# Altium footprint library MLACHC_C.PCBLIB: 52 footprints (part 1 of 4)
Each footprint in its own frame and in the unit in brackets; x right, y up, seen from the top. Pads: shape width x height; smd on the part's side, far side on the other; paste and mask are expansions set on the pad; w line width, h text height; cw(c..) or ccw(c..) is an arc to the next point about the centre after c.
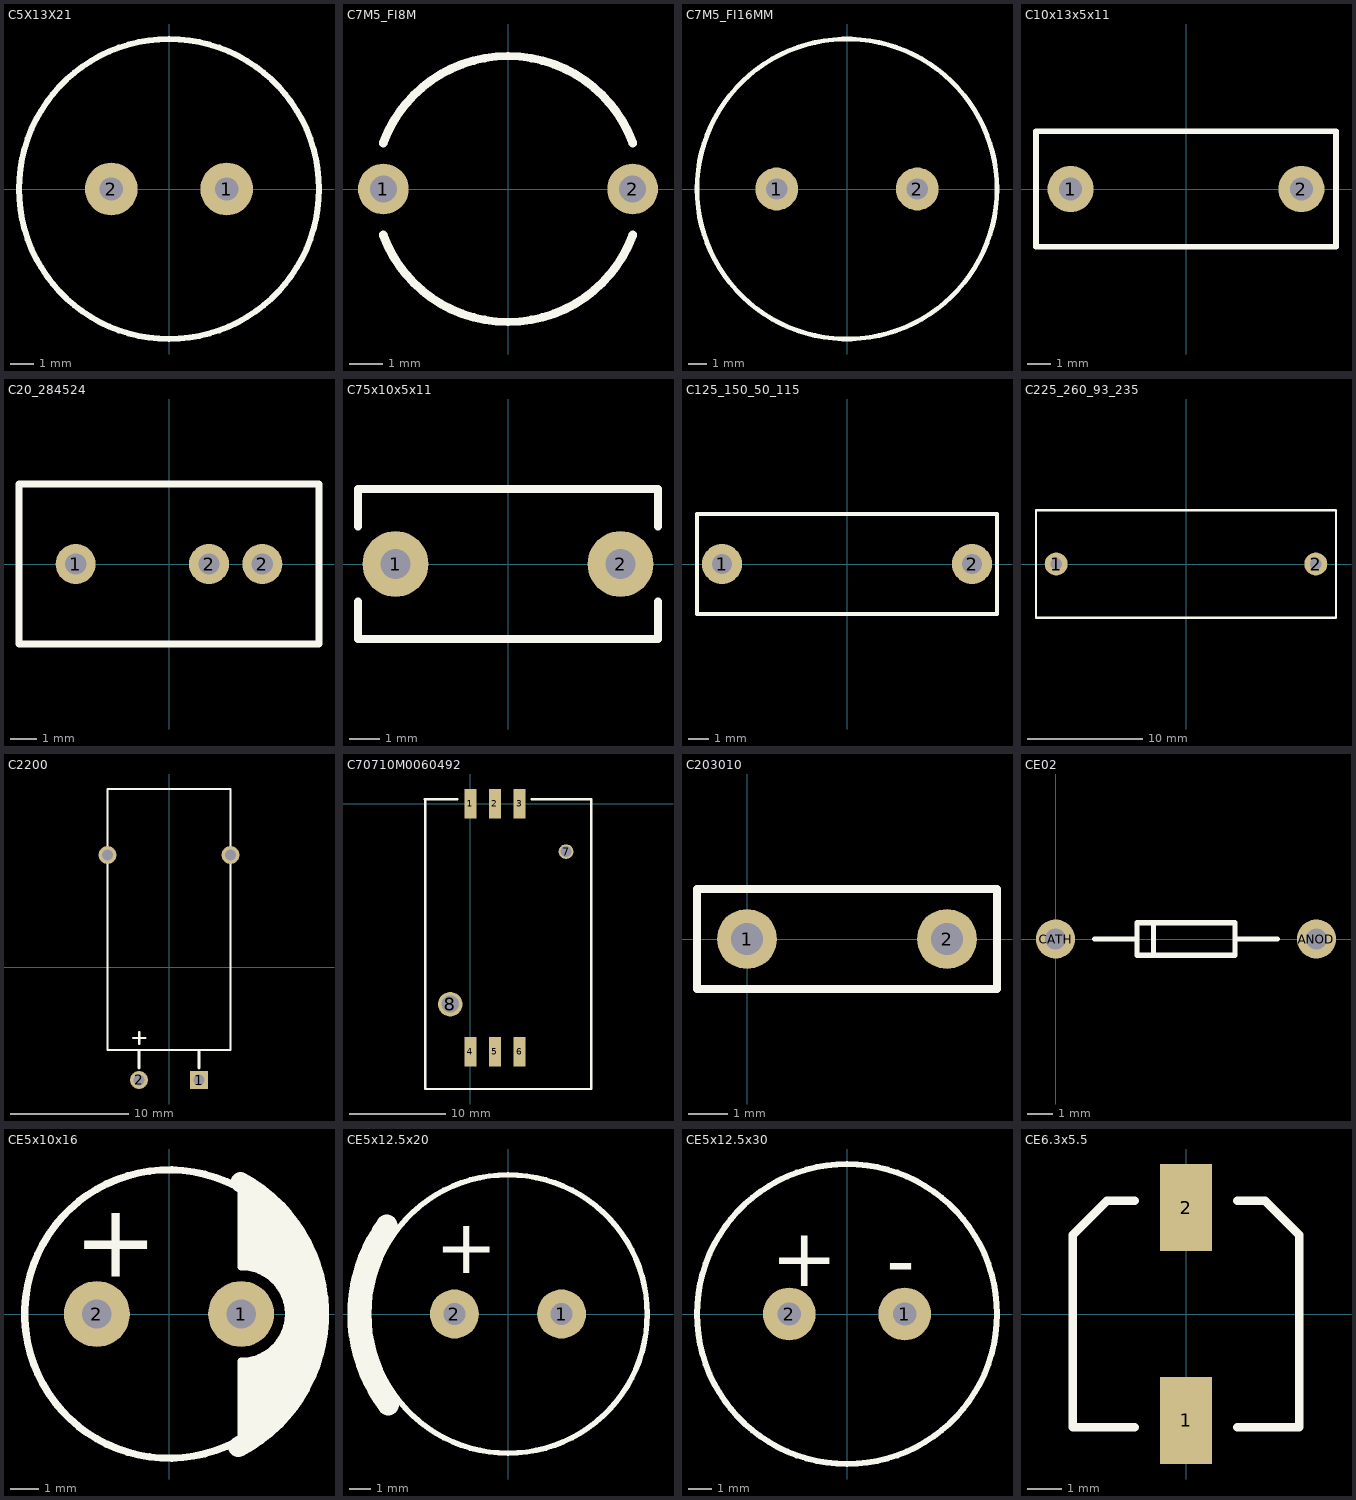
[diagram p0: the footprints below, top view; thin cyan lines are the x and y axes]

## C5X13X21 [mil]
pads (2):
  round 90 hole 40: 1(98.43,0) 2(-98.43,0)
TopOverlay:
  circle w10: c0,0 r255.91
3D body: height 826.77, standoff 0, extent -254.89,-255.9 254.9,254.9

## C7M5_FI8M [mil]
height 590.55
pads (2):
  round 60 hole 32: 1(-147.64,0) 2(147.64,0)
TopOverlay:
  lines w10: -147.98,-53.86 ccw(c0,0) 147.98,-53.86 ; -147.98,53.86 cw(c0,0) 147.98,53.86

## C7M5_FI16MM [mil]
height 984.25
pads (2):
  round 90 hole 45: 1(-147.64,0) 2(147.64,0)
TopOverlay:
  circle w10: c0,0 r314.96

## C10x13x5x11 [mm]
height 11
pads (2):
  round 2 hole 1: 1(-5,0) 2(5,0)
TopOverlay:
  lines w0.254: -6.5,-2.5 -6.5,2.5 6.5,2.5 6.5,-2.5 -6.5,-2.5
3D body: height 11, standoff 0, extent -6.5,-2.5 6.5,2.5

## C20_284524 [mil]
pads (3):
  round 60 hole 32: 1(-140,0) 2(60,0) 2(140,0)
TopOverlay:
  lines w10: -225,-120 -225,120 225,120 225,-120 -225,-120

## C75x10x5x11 [mm]
height 11
pads (2):
  round 2.2 hole 1: 1(-3.75,0) 2(3.75,0)
TopOverlay:
  lines w0.254: -5,-1.25 -5,-2.5 5,-2.5 5,-1.25 ; -5,1.25 -5,2.5 5,2.5 5,1.25
3D body: height 11, standoff 0, extent -5,-2.5 5,2.5

## C125_150_50_115 [mm]
pads (2):
  round 2 hole 1: 1(-6.25,0) 2(6.25,0)
TopOverlay:
  lines w0.203: -7.5,-2.5 -7.5,2.5 7.5,2.5 7.5,-2.5 -7.5,-2.5
3D body: height 11.5, standoff 0, extent -7.5,-2.5 7.5,2.5
3D body: height 1, standoff -3, extent -6.7,-0.45 -5.8,0.475
3D body: height 1, standoff -3, extent 5.8,-0.45 6.7,0.45

## C225_260_93_235 [mm]
pads (2):
  round 2 hole 1: 1(-11.25,0) 2(11.25,0)
TopOverlay:
  lines w0.203: -13,-4.65 13,-4.65 13,4.65 -13,4.65 -13,-4.65
3D body: height 1, standoff -3, extent 10.8,-0.45 11.7,0.45
3D body: height 1, standoff -3, extent -11.7,-0.45 -10.8,0.45
3D body: height 23.5, standoff 0, extent -13,-4.65 13,4.65

## C2200 [mil]
pads (4):
  rect 60x60 hole 35.43: 1(99.51,-375.1)
  round 60 hole 35.43: 2(-100.49,-375.1) ""(-205.49,374.9) ""(204.51,374.9)
TopOverlay:
  lines w7.87: -120.02,-235.1 -80.02,-235.1 ; -100.02,-255.1 -100.02,-215.1 ; -205.49,-275.1 -205.49,594.9 204.51,594.9 204.51,-275.1 -205.49,-275.1
  lines w10: -100.49,-335.1 -100.49,-280.1 ; 99.51,-335.1 99.51,-280.1

## C70710M0060492 [mil]
pads (8):
  rect 50x120 smd: 1(0,0.1) 2(100,0) 3(200,0.1) 4(0,-1011.81) 5(100,-1011.81) 6(200,-1011.81)
  round 60 hole 45: 7(389.76,-195.28)
  round 100 hole 70: 8(-82.68,-817.32)
TopOverlay:
  lines w10: -186.02,17.72 -54.13,17.72 ; -185.04,17.72 -185.04,-1163.39 492.13,-1163.39 ; 250,17.72 492.13,17.72 492.13,-1159.35
3D body: height 98.43, standoff 0, extent -185.04,-1163.39 492.13,17.72

## C203010 [mil]
pads (2):
  round 60 hole 32: 1(0,0) 2(200,0)
TopOverlay:
  lines w8: -50,-50 -50,50 250,50 250,-50 -50,-50
3D body: height 137.8, standoff -59.06, extent 184.25,-15.75 215.62,15.69
3D body: height 137.8, standoff -59.06, extent -15.75,-15.75 15.62,15.69
3D body: height 275.59, standoff 39.37, extent -50,-50 250,50

## CE02 [mil]
pads (2):
  round 60 hole 32: ANOD(400,0) CATH(0,0)
TopOverlay:
  lines w8: 60,0 125,0 ; 150,-25 150,25 ; 275,0 340,0 ; 125,-25 125,25 275,25 275,-25 125,-25
3D body: height 98.02, standoff -3.94, extent 92.52,-51.18 112.2,50.98
3D body: height 94.12, standoff 0, extent 78.74,-47.24 322.83,47.06
3D body: height 58.96, standoff 35.43, extent 0,-11.81 149.61,11.76
3D body: height 59.06, standoff -78.74, extent -11.76,-11.81 11.76,11.76
3D body: height 59.06, standoff -78.74, extent 388.24,-11.79 411.76,11.79
3D body: height 58.96, standoff 35.43, extent 250.39,-11.79 400,11.79

## CE5x10x16 [mil]
pads (2):
  round 90 hole 40: 1(98.43,0) 2(-98.43,0)
TopOverlay:
  circle w10: c0,0 r196.85
  lines w9.84: 98.43,-169.29 98.43,-64.57 ccw(c98.43,0) 98.43,64.57 98.43,169.29
  lines w19.68: 106.3,-177.17 106.3,-70.87 ; 106.3,70.87 106.3,177.17 ; 122.05,-165.35 122.05,-66.93 ; 122.05,66.93 122.05,165.35 ; 137.8,-153.54 137.8,-59.06 ; 137.8,59.06 137.8,153.54 ; 153.54,-137.8 153.54,-43.31 ; 153.54,43.31 153.54,137.8 ; 165.35,-74.8 165.35,-27.56 ; 165.35,23.62 165.35,74.8 ; 173.23,-110.24 173.23,102.36 ; 185.04,-51.18 185.04,47.24
  lines w27.56: 94.57,-181.57 ccw(c0,0) 97.76,179.88
  text "+" at -129.92,51.18 h100
3D body: height 629.92, standoff 0, extent -195.3,-196.46 196.85,196.46

## CE5x12.5x20 [mil]
pads (2):
  round 90 hole 40: 1(98.43,0) 2(-98.43,0)
TopOverlay:
  circle w10: c0,0 r255.91
  lines w39.37: -222.47,162.7 ccw(c0,0) -219.69,-166.44
  text "+" at -133.86,74.8 h100
3D body: height 787.4, standoff 0, extent -254.89,-255.9 254.9,254.9

## CE5x12.5x30 [mil]
pads (2):
  round 90 hole 40: 1(98.43,0) 2(-98.43,0)
TopOverlay:
  circle w10: c0,0 r255.91
  text "+" at -129.92,47.24 h100
  text "-" at 66.93,43.31 h100
3D body: height 1181.1, standoff 0, extent -254.89,-255.9 254.9,254.9

## CE6.3x5.5 [mil]
height 236.22
pads (2):
  rect 60x100 smd: 1(0,-122) 2(0,122)
TopOverlay:
  lines w10: -59.06,-129.92 -129.92,-129.92 -129.92,90.55 -90.55,129.92 -59.06,129.92 ; 59.06,-129.92 129.92,-129.92 129.92,90.55 90.55,129.92 59.06,129.92